# Altium footprint library QFN_Sq_50P_Side_N.PcbLib: 119 footprints (part 1 of 8)
Each footprint in its own frame and in the unit in brackets; x right, y up, seen from the top. Pads: shape width x height; smd on the part's side, far side on the other; paste and mask are expansions set on the pad; w line width, h text height; cw(c..) or ccw(c..) is an arc to the next point about the centre after c.
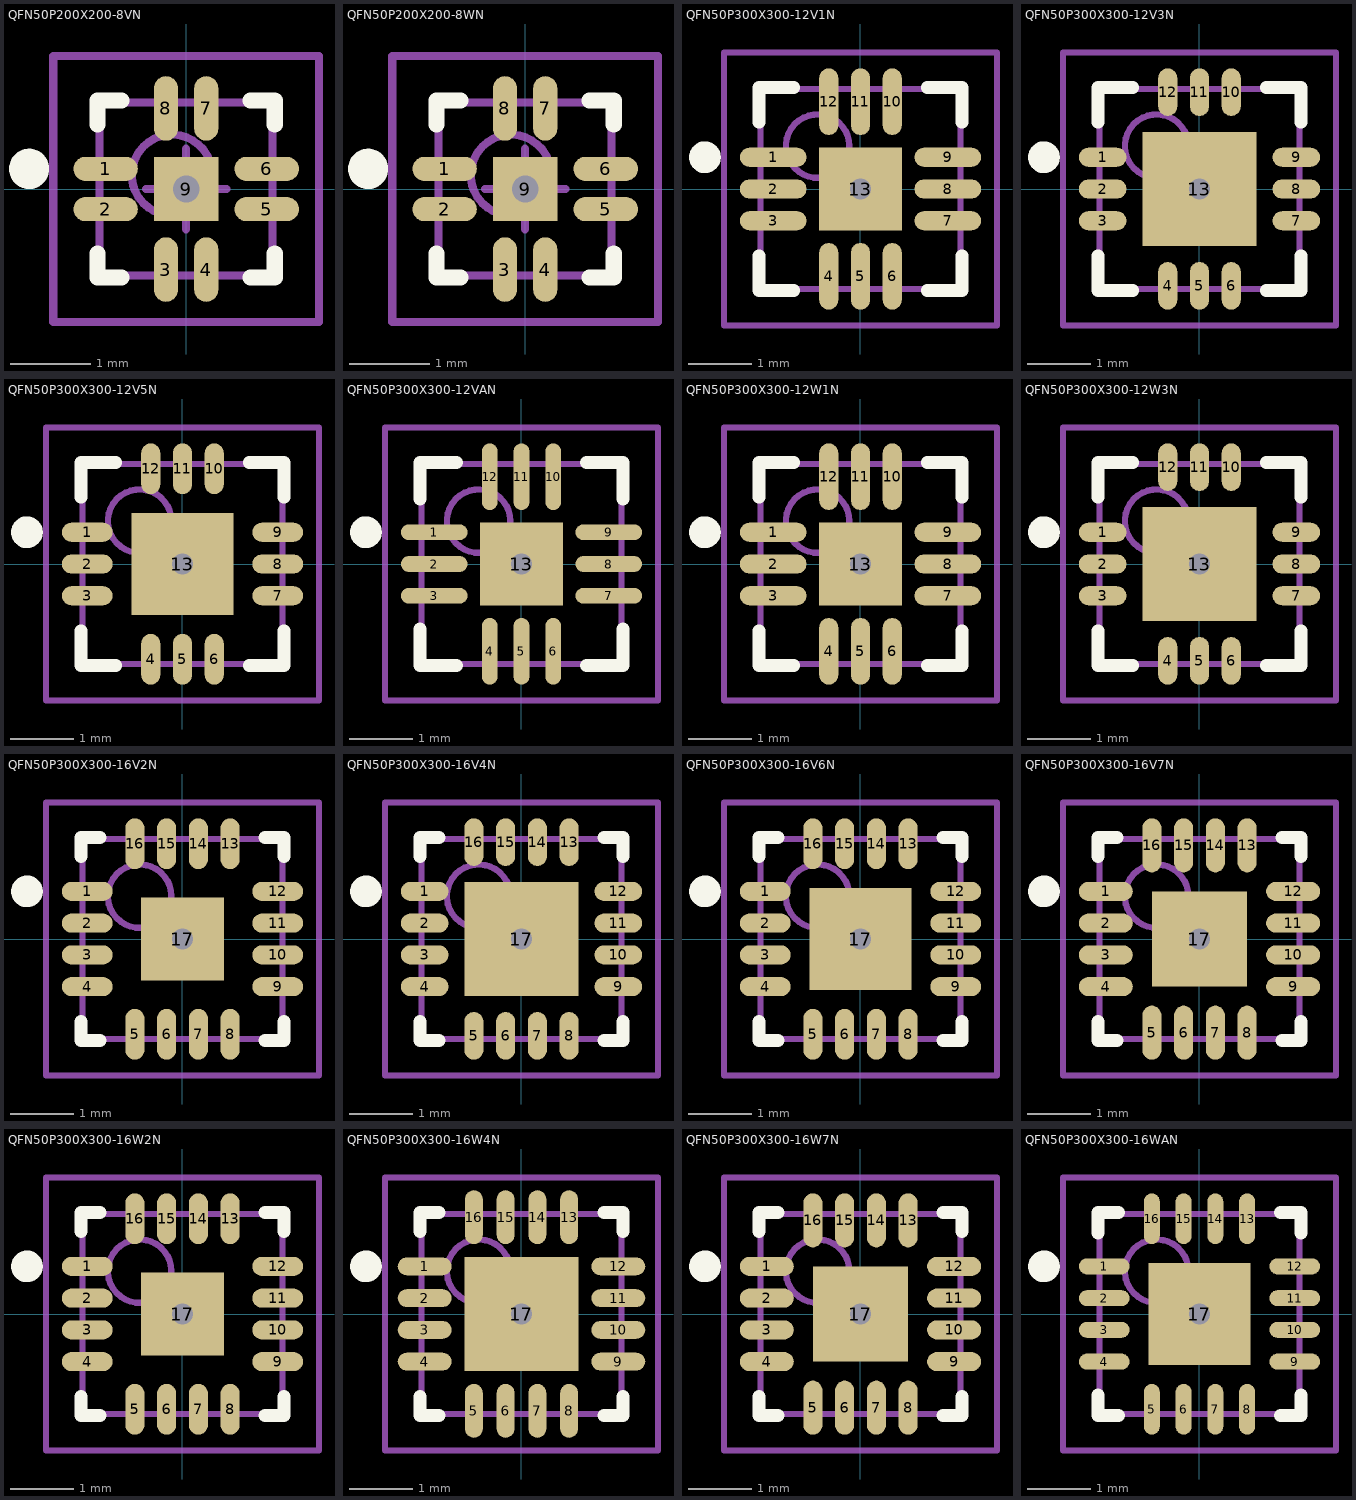
[diagram p0: the footprints below, top view; thin cyan lines are the x and y axes]

## QFN50P200X200-8VN [mm] "QFN, 8-Leads, Body 2x2mm, Pitch 0.5mm, IPC Medium Density"
height 1
pads (9):
  oval 0.8x0.3 smd: 1(-1,0.25) 2(-1,-0.25) 5(1,-0.25) 6(1,0.25)
  oval 0.3x0.8 smd: 3(-0.25,-1) 4(0.25,-1) 7(0.25,1) 8(-0.25,1)
  rect 0.8x0.8 smd: 9(0,0)
via 0,0 diameter 0.66 hole 0.33
Top Overlay:
  circle w0.25: c-1.95,0.25 r0.125
  lines w0.2: -1.1,-0.8 -1.1,-1.1 -0.8,-1.1 ; -1.1,0.8 -1.1,1.1 -0.8,1.1 ; 0.8,-1.1 1.1,-1.1 1.1,-0.8 ; 0.8,1.1 1.1,1.1 1.1,0.8
Mechanical 13:
  circle w0.1: c-0.175,0.175 r0.5
  lines w0.1: -1.075,-1.075 -1.075,1.075 1.075,1.075 1.075,-1.075 -1.075,-1.075
Mechanical 15:
  lines w0.1: -0.5,0 0.5,0 ; 0,-0.5 0,0.5 ; -1.65,-1.65 -1.65,1.65 1.65,1.65 1.65,-1.65 -1.65,-1.65
3D body: height 1, standoff 0, extent -1.075,-1.075 1.075,1.075

## QFN50P200X200-8WN [mm] "QFN, 8-Leads, Body 2x2mm, Pitch 0.5mm, IPC Medium Density"
height 0.8
pads (9):
  oval 0.8x0.3 smd: 1(-1,0.25) 2(-1,-0.25) 5(1,-0.25) 6(1,0.25)
  oval 0.3x0.8 smd: 3(-0.25,-1) 4(0.25,-1) 7(0.25,1) 8(-0.25,1)
  rect 0.8x0.8 smd: 9(0,0)
via 0,0 diameter 0.66 hole 0.33
Top Overlay:
  circle w0.25: c-1.95,0.25 r0.125
  lines w0.2: -1.1,-0.8 -1.1,-1.1 -0.8,-1.1 ; -1.1,0.8 -1.1,1.1 -0.8,1.1 ; 0.8,-1.1 1.1,-1.1 1.1,-0.8 ; 0.8,1.1 1.1,1.1 1.1,0.8
Mechanical 13:
  circle w0.1: c-0.175,0.175 r0.5
  lines w0.1: -1.075,-1.075 1.075,-1.075 1.075,1.075 -1.075,1.075 -1.075,-1.075
Mechanical 15:
  lines w0.1: -0.5,0 0.5,0 ; 0,-0.5 0,0.5 ; -1.65,-1.65 1.65,-1.65 1.65,1.65 -1.65,1.65 -1.65,-1.65
3D body: height 0.8, standoff 0, extent -1.075,-1.075 1.075,1.075

## QFN50P300X300-12V1N [mm] "QFN, 12-Leads, Body 3x3mm, Pitch 0.5mm, IPC Medium Density"
height 1
pads (13):
  oval 1.05x0.3 smd: 1(-1.375,0.5) 2(-1.375,0) 3(-1.375,-0.5) 7(1.375,-0.5) 8(1.375,0) 9(1.375,0.5)
  oval 0.3x1.05 smd: 4(-0.5,-1.375) 5(0,-1.375) 6(0.5,-1.375) 10(0.5,1.375) 11(0,1.375) 12(-0.5,1.375)
  rect 1.3x1.3 smd: 13(0,0)
via 0,0 diameter 0.66 hole 0.33
Top Overlay:
  circle w0.25: c-2.45,0.5 r0.125
  lines w0.2: -1.6,-1.05 -1.6,-1.6 -1.05,-1.6 ; -1.6,1.05 -1.6,1.6 -1.05,1.6 ; 1.05,-1.6 1.6,-1.6 1.6,-1.05 ; 1.05,1.6 1.6,1.6 1.6,1.05
Mechanical 13:
  circle w0.1: c-0.675,0.675 r0.5
  lines w0.1: -1.575,-1.575 1.575,-1.575 1.575,1.575 -1.575,1.575 -1.575,-1.575
Mechanical 15:
  lines w0.1: -0.5,0 0.5,0 ; 0,-0.5 0,0.5 ; -2.15,-2.15 2.15,-2.15 2.15,2.15 -2.15,2.15 -2.15,-2.15
3D body: height 1, standoff 0, extent -1.575,-1.575 1.575,1.575

## QFN50P300X300-12V3N [mm] "QFN, 12-Leads, Body 3x3mm, Pitch 0.5mm, IPC Medium Density"
height 1
pads (13):
  oval 0.75x0.3 smd: 1(-1.525,0.5) 2(-1.525,0) 3(-1.525,-0.5) 7(1.525,-0.5) 8(1.525,0) 9(1.525,0.5)
  oval 0.3x0.75 smd: 4(-0.5,-1.525) 5(0,-1.525) 6(0.5,-1.525) 10(0.5,1.525) 11(0,1.525) 12(-0.5,1.525)
  rect 1.8x1.8 smd: 13(0,0)
via 0,0 diameter 0.66 hole 0.33
Top Overlay:
  circle w0.25: c-2.45,0.5 r0.125
  lines w0.2: -1.6,-1.05 -1.6,-1.6 -1.05,-1.6 ; -1.6,1.05 -1.6,1.6 -1.05,1.6 ; 1.05,-1.6 1.6,-1.6 1.6,-1.05 ; 1.05,1.6 1.6,1.6 1.6,1.05
Mechanical 13:
  circle w0.1: c-0.675,0.675 r0.5
  lines w0.1: -1.575,-1.575 -1.575,1.575 1.575,1.575 1.575,-1.575 -1.575,-1.575
Mechanical 15:
  lines w0.1: -0.5,0 0.5,0 ; 0,-0.5 0,0.5 ; -2.15,-2.15 -2.15,2.15 2.15,2.15 2.15,-2.15 -2.15,-2.15
3D body: height 1, standoff 0, extent -1.575,-1.575 1.575,1.575

## QFN50P300X300-12V5N [mm] "QFN, 12-Leads, Body 3x3mm, Pitch 0.5mm, IPC Medium Density"
height 1
pads (13):
  oval 0.8x0.3 smd: 1(-1.5,0.5) 2(-1.5,0) 3(-1.5,-0.5) 7(1.5,-0.5) 8(1.5,0) 9(1.5,0.5)
  oval 0.3x0.8 smd: 4(-0.5,-1.5) 5(0,-1.5) 6(0.5,-1.5) 10(0.5,1.5) 11(0,1.5) 12(-0.5,1.5)
  rect 1.6x1.6 smd: 13(0,0)
via 0,0 diameter 0.66 hole 0.33
Top Overlay:
  circle w0.25: c-2.45,0.5 r0.125
  lines w0.2: -1.6,-1.05 -1.6,-1.6 -1.05,-1.6 ; -1.6,1.05 -1.6,1.6 -1.05,1.6 ; 1.05,-1.6 1.6,-1.6 1.6,-1.05 ; 1.05,1.6 1.6,1.6 1.6,1.05
Mechanical 13:
  circle w0.1: c-0.675,0.675 r0.5
  lines w0.1: -1.575,-1.575 -1.575,1.575 1.575,1.575 1.575,-1.575 -1.575,-1.575
Mechanical 15:
  lines w0.1: -0.5,0 0.5,0 ; 0,-0.5 0,0.5 ; -2.15,-2.15 -2.15,2.15 2.15,2.15 2.15,-2.15 -2.15,-2.15
3D body: height 1, standoff 0, extent -1.575,-1.575 1.575,1.575

## QFN50P300X300-12VAN [mm] "QFN, 12-Leads, Body 3x3mm, Pitch 0.5mm, IPC Medium Density"
height 1
pads (13):
  oval 1.05x0.25 smd: 1(-1.375,0.5) 2(-1.375,0) 3(-1.375,-0.5) 7(1.375,-0.5) 8(1.375,0) 9(1.375,0.5)
  oval 0.25x1.05 smd: 4(-0.5,-1.375) 5(0,-1.375) 6(0.5,-1.375) 10(0.5,1.375) 11(0,1.375) 12(-0.5,1.375)
  rect 1.3x1.3 smd: 13(0,0)
via 0,0 diameter 0.66 hole 0.33
Top Overlay:
  circle w0.25: c-2.45,0.5 r0.125
  lines w0.2: -1.6,-1.025 -1.6,-1.6 -1.025,-1.6 ; -1.6,1.025 -1.6,1.6 -1.025,1.6 ; 1.025,-1.6 1.6,-1.6 1.6,-1.025 ; 1.025,1.6 1.6,1.6 1.6,1.025
Mechanical 13:
  circle w0.1: c-0.675,0.675 r0.5
  lines w0.1: -1.575,-1.575 -1.575,1.575 1.575,1.575 1.575,-1.575 -1.575,-1.575
Mechanical 15:
  lines w0.1: -0.5,0 0.5,0 ; 0,-0.5 0,0.5 ; -2.15,-2.15 -2.15,2.15 2.15,2.15 2.15,-2.15 -2.15,-2.15
3D body: height 1, standoff 0, extent -1.575,-1.575 1.575,1.575

## QFN50P300X300-12W1N [mm] "QFN, 12-Leads, Body 3x3mm, Pitch 0.5mm, IPC Medium Density"
height 0.8
pads (13):
  oval 1.05x0.3 smd: 1(-1.375,0.5) 2(-1.375,0) 3(-1.375,-0.5) 7(1.375,-0.5) 8(1.375,0) 9(1.375,0.5)
  oval 0.3x1.05 smd: 4(-0.5,-1.375) 5(0,-1.375) 6(0.5,-1.375) 10(0.5,1.375) 11(0,1.375) 12(-0.5,1.375)
  rect 1.3x1.3 smd: 13(0,0)
via 0,0 diameter 0.66 hole 0.33
Top Overlay:
  circle w0.25: c-2.45,0.5 r0.125
  lines w0.2: -1.6,-1.05 -1.6,-1.6 -1.05,-1.6 ; -1.6,1.05 -1.6,1.6 -1.05,1.6 ; 1.05,-1.6 1.6,-1.6 1.6,-1.05 ; 1.05,1.6 1.6,1.6 1.6,1.05
Mechanical 13:
  circle w0.1: c-0.675,0.675 r0.5
  lines w0.1: -1.575,-1.575 -1.575,1.575 1.575,1.575 1.575,-1.575 -1.575,-1.575
Mechanical 15:
  lines w0.1: -0.5,0 0.5,0 ; 0,-0.5 0,0.5 ; -2.15,-2.15 -2.15,2.15 2.15,2.15 2.15,-2.15 -2.15,-2.15
3D body: height 0.8, standoff 0, extent -1.575,-1.575 1.575,1.575

## QFN50P300X300-12W3N [mm] "QFN, 12-Leads, Body 3x3mm, Pitch 0.5mm, IPC Medium Density"
height 0.8
pads (13):
  oval 0.75x0.3 smd: 1(-1.525,0.5) 2(-1.525,0) 3(-1.525,-0.5) 7(1.525,-0.5) 8(1.525,0) 9(1.525,0.5)
  oval 0.3x0.75 smd: 4(-0.5,-1.525) 5(0,-1.525) 6(0.5,-1.525) 10(0.5,1.525) 11(0,1.525) 12(-0.5,1.525)
  rect 1.8x1.8 smd: 13(0,0)
via 0,0 diameter 0.66 hole 0.33
Top Overlay:
  circle w0.25: c-2.45,0.5 r0.125
  lines w0.2: -1.6,-1.05 -1.6,-1.6 -1.05,-1.6 ; -1.6,1.05 -1.6,1.6 -1.05,1.6 ; 1.05,-1.6 1.6,-1.6 1.6,-1.05 ; 1.05,1.6 1.6,1.6 1.6,1.05
Mechanical 13:
  circle w0.1: c-0.675,0.675 r0.5
  lines w0.1: -1.575,-1.575 1.575,-1.575 1.575,1.575 -1.575,1.575 -1.575,-1.575
Mechanical 15:
  lines w0.1: -0.5,0 0.5,0 ; 0,-0.5 0,0.5 ; -2.15,-2.15 2.15,-2.15 2.15,2.15 -2.15,2.15 -2.15,-2.15
3D body: height 0.8, standoff 0, extent -1.575,-1.575 1.575,1.575

## QFN50P300X300-16V2N [mm] "QFN, 16-Leads, Body 3x3mm, Pitch 0.5mm, IPC Medium Density"
height 1
pads (17):
  oval 0.8x0.3 smd: 1(-1.5,0.75) 2(-1.5,0.25) 3(-1.5,-0.25) 4(-1.5,-0.75) 9(1.5,-0.75) 10(1.5,-0.25) 11(1.5,0.25) 12(1.5,0.75)
  oval 0.3x0.8 smd: 5(-0.75,-1.5) 6(-0.25,-1.5) 7(0.25,-1.5) 8(0.75,-1.5) 13(0.75,1.5) 14(0.25,1.5) 15(-0.25,1.5) 16(-0.75,1.5)
  rect 1.3x1.3 smd: 17(0,0)
via 0,0 diameter 0.66 hole 0.33
Top Overlay:
  circle w0.25: c-2.45,0.75 r0.125
  lines w0.2: -1.6,-1.3 -1.6,-1.6 -1.3,-1.6 ; -1.6,1.3 -1.6,1.6 -1.3,1.6 ; 1.3,-1.6 1.6,-1.6 1.6,-1.3 ; 1.3,1.6 1.6,1.6 1.6,1.3
Mechanical 13:
  circle w0.1: c-0.675,0.675 r0.5
  lines w0.1: -1.575,-1.575 -1.575,1.575 1.575,1.575 1.575,-1.575 -1.575,-1.575
Mechanical 15:
  lines w0.1: -0.5,0 0.5,0 ; 0,-0.5 0,0.5 ; -2.15,-2.15 -2.15,2.15 2.15,2.15 2.15,-2.15 -2.15,-2.15
3D body: height 1, standoff 0, extent -1.575,-1.575 1.575,1.575

## QFN50P300X300-16V4N [mm] "QFN, 16-Leads, Body 3x3mm, Pitch 0.5mm, IPC Medium Density"
height 1
pads (17):
  oval 0.75x0.3 smd: 1(-1.525,0.75) 2(-1.525,0.25) 3(-1.525,-0.25) 4(-1.525,-0.75) 9(1.525,-0.75) 10(1.525,-0.25) 11(1.525,0.25) 12(1.525,0.75)
  oval 0.3x0.75 smd: 5(-0.75,-1.525) 6(-0.25,-1.525) 7(0.25,-1.525) 8(0.75,-1.525) 13(0.75,1.525) 14(0.25,1.525) 15(-0.25,1.525) 16(-0.75,1.525)
  rect 1.8x1.8 smd: 17(0,0)
via 0,0 diameter 0.66 hole 0.33
Top Overlay:
  circle w0.25: c-2.45,0.75 r0.125
  lines w0.2: -1.6,-1.3 -1.6,-1.6 -1.3,-1.6 ; -1.6,1.3 -1.6,1.6 -1.3,1.6 ; 1.3,-1.6 1.6,-1.6 1.6,-1.3 ; 1.3,1.6 1.6,1.6 1.6,1.3
Mechanical 13:
  circle w0.1: c-0.675,0.675 r0.5
  lines w0.1: -1.575,-1.575 1.575,-1.575 1.575,1.575 -1.575,1.575 -1.575,-1.575
Mechanical 15:
  lines w0.1: -0.5,0 0.5,0 ; 0,-0.5 0,0.5 ; -2.15,-2.15 2.15,-2.15 2.15,2.15 -2.15,2.15 -2.15,-2.15
3D body: height 1, standoff 0, extent -1.575,-1.575 1.575,1.575

## QFN50P300X300-16V6N [mm] "QFN, 16-Leads, Body 3x3mm, Pitch 0.5mm, IPC Medium Density"
height 1
pads (17):
  oval 0.8x0.3 smd: 1(-1.5,0.75) 2(-1.5,0.25) 3(-1.5,-0.25) 4(-1.5,-0.75) 9(1.5,-0.75) 10(1.5,-0.25) 11(1.5,0.25) 12(1.5,0.75)
  oval 0.3x0.8 smd: 5(-0.75,-1.5) 6(-0.25,-1.5) 7(0.25,-1.5) 8(0.75,-1.5) 13(0.75,1.5) 14(0.25,1.5) 15(-0.25,1.5) 16(-0.75,1.5)
  rect 1.6x1.6 smd: 17(0,0)
via 0,0 diameter 0.66 hole 0.33
Top Overlay:
  circle w0.25: c-2.45,0.75 r0.125
  lines w0.2: -1.6,-1.3 -1.6,-1.6 -1.3,-1.6 ; -1.6,1.3 -1.6,1.6 -1.3,1.6 ; 1.3,-1.6 1.6,-1.6 1.6,-1.3 ; 1.3,1.6 1.6,1.6 1.6,1.3
Mechanical 13:
  circle w0.1: c-0.675,0.675 r0.5
  lines w0.1: -1.575,-1.575 1.575,-1.575 1.575,1.575 -1.575,1.575 -1.575,-1.575
Mechanical 15:
  lines w0.1: -0.5,0 0.5,0 ; 0,-0.5 0,0.5 ; -2.15,-2.15 2.15,-2.15 2.15,2.15 -2.15,2.15 -2.15,-2.15
3D body: height 1, standoff 0, extent -1.575,-1.575 1.575,1.575

## QFN50P300X300-16V7N [mm] "QFN, 16-Leads, Body 3x3mm, Pitch 0.5mm, IPC Medium Density"
height 1
pads (17):
  oval 0.85x0.3 smd: 1(-1.475,0.75) 2(-1.475,0.25) 3(-1.475,-0.25) 4(-1.475,-0.75) 9(1.475,-0.75) 10(1.475,-0.25) 11(1.475,0.25) 12(1.475,0.75)
  oval 0.3x0.85 smd: 5(-0.75,-1.475) 6(-0.25,-1.475) 7(0.25,-1.475) 8(0.75,-1.475) 13(0.75,1.475) 14(0.25,1.475) 15(-0.25,1.475) 16(-0.75,1.475)
  rect 1.5x1.5 smd: 17(0,0)
via 0,0 diameter 0.66 hole 0.33
Top Overlay:
  circle w0.25: c-2.45,0.75 r0.125
  lines w0.2: -1.6,-1.3 -1.6,-1.6 -1.3,-1.6 ; -1.6,1.3 -1.6,1.6 -1.3,1.6 ; 1.3,-1.6 1.6,-1.6 1.6,-1.3 ; 1.3,1.6 1.6,1.6 1.6,1.3
Mechanical 13:
  circle w0.1: c-0.675,0.675 r0.5
  lines w0.1: -1.575,-1.575 -1.575,1.575 1.575,1.575 1.575,-1.575 -1.575,-1.575
Mechanical 15:
  lines w0.1: -0.5,0 0.5,0 ; 0,-0.5 0,0.5 ; -2.15,-2.15 -2.15,2.15 2.15,2.15 2.15,-2.15 -2.15,-2.15
3D body: height 1, standoff 0, extent -1.575,-1.575 1.575,1.575

## QFN50P300X300-16W2N [mm] "QFN, 16-Leads, Body 3x3mm, Pitch 0.5mm, IPC Medium Density"
height 0.8
pads (17):
  oval 0.8x0.3 smd: 1(-1.5,0.75) 2(-1.5,0.25) 3(-1.5,-0.25) 4(-1.5,-0.75) 9(1.5,-0.75) 10(1.5,-0.25) 11(1.5,0.25) 12(1.5,0.75)
  oval 0.3x0.8 smd: 5(-0.75,-1.5) 6(-0.25,-1.5) 7(0.25,-1.5) 8(0.75,-1.5) 13(0.75,1.5) 14(0.25,1.5) 15(-0.25,1.5) 16(-0.75,1.5)
  rect 1.3x1.3 smd: 17(0,0)
via 0,0 diameter 0.66 hole 0.33
Top Overlay:
  circle w0.25: c-2.45,0.75 r0.125
  lines w0.2: -1.6,-1.3 -1.6,-1.6 -1.3,-1.6 ; -1.6,1.3 -1.6,1.6 -1.3,1.6 ; 1.3,-1.6 1.6,-1.6 1.6,-1.3 ; 1.3,1.6 1.6,1.6 1.6,1.3
Mechanical 13:
  circle w0.1: c-0.675,0.675 r0.5
  lines w0.1: -1.575,-1.575 1.575,-1.575 1.575,1.575 -1.575,1.575 -1.575,-1.575
Mechanical 15:
  lines w0.1: -0.5,0 0.5,0 ; 0,-0.5 0,0.5 ; -2.15,-2.15 2.15,-2.15 2.15,2.15 -2.15,2.15 -2.15,-2.15
3D body: height 0.8, standoff 0, extent -1.575,-1.575 1.575,1.575

## QFN50P300X300-16W4N [mm] "QFN, 16-Leads, Body 3x3mm, Pitch 0.5mm, IPC Medium Density"
height 0.8
pads (17):
  oval 0.85x0.28 smd: 1(-1.525,0.75) 2(-1.525,0.25) 3(-1.525,-0.25) 4(-1.525,-0.75) 9(1.525,-0.75) 10(1.525,-0.25) 11(1.525,0.25) 12(1.525,0.75)
  oval 0.28x0.85 smd: 5(-0.75,-1.525) 6(-0.25,-1.525) 7(0.25,-1.525) 8(0.75,-1.525) 13(0.75,1.525) 14(0.25,1.525) 15(-0.25,1.525) 16(-0.75,1.525)
  rect 1.8x1.8 smd: 17(0,0)
via 0,0 diameter 0.66 hole 0.33
Top Overlay:
  circle w0.25: c-2.45,0.75 r0.125
  lines w0.2: -1.6,-1.3 -1.6,-1.6 -1.3,-1.6 ; -1.6,1.3 -1.6,1.6 -1.3,1.6 ; 1.3,-1.6 1.6,-1.6 1.6,-1.3 ; 1.3,1.6 1.6,1.6 1.6,1.3
Mechanical 13:
  circle w0.1: c-0.675,0.675 r0.5
  lines w0.1: -1.575,-1.575 1.575,-1.575 1.575,1.575 -1.575,1.575 -1.575,-1.575
Mechanical 15:
  lines w0.1: -0.5,0 0.5,0 ; 0,-0.5 0,0.5 ; -2.15,-2.15 2.15,-2.15 2.15,2.15 -2.15,2.15 -2.15,-2.15
3D body: height 0.8, standoff 0, extent -1.575,-1.575 1.575,1.575

## QFN50P300X300-16W7N [mm] "QFN, 16-Leads, Body 3x3mm, Pitch 0.5mm, IPC Medium Density"
height 0.8
pads (17):
  oval 0.85x0.3 smd: 1(-1.475,0.75) 2(-1.475,0.25) 3(-1.475,-0.25) 4(-1.475,-0.75) 9(1.475,-0.75) 10(1.475,-0.25) 11(1.475,0.25) 12(1.475,0.75)
  oval 0.3x0.85 smd: 5(-0.75,-1.475) 6(-0.25,-1.475) 7(0.25,-1.475) 8(0.75,-1.475) 13(0.75,1.475) 14(0.25,1.475) 15(-0.25,1.475) 16(-0.75,1.475)
  rect 1.5x1.5 smd: 17(0,0)
via 0,0 diameter 0.66 hole 0.33
Top Overlay:
  circle w0.25: c-2.45,0.75 r0.125
  lines w0.2: -1.6,-1.3 -1.6,-1.6 -1.3,-1.6 ; -1.6,1.3 -1.6,1.6 -1.3,1.6 ; 1.3,-1.6 1.6,-1.6 1.6,-1.3 ; 1.3,1.6 1.6,1.6 1.6,1.3
Mechanical 13:
  circle w0.1: c-0.675,0.675 r0.5
  lines w0.1: -1.575,-1.575 1.575,-1.575 1.575,1.575 -1.575,1.575 -1.575,-1.575
Mechanical 15:
  lines w0.1: -0.5,0 0.5,0 ; 0,-0.5 0,0.5 ; -2.15,-2.15 2.15,-2.15 2.15,2.15 -2.15,2.15 -2.15,-2.15
3D body: height 0.8, standoff 0, extent -1.575,-1.575 1.575,1.575

## QFN50P300X300-16WAN [mm] "QFN, 16-Leads, Body 3x3mm, Pitch 0.5mm, IPC Medium Density"
height 0.8
pads (17):
  oval 0.8x0.25 smd: 1(-1.5,0.75) 2(-1.5,0.25) 3(-1.5,-0.25) 4(-1.5,-0.75) 9(1.5,-0.75) 10(1.5,-0.25) 11(1.5,0.25) 12(1.5,0.75)
  oval 0.25x0.8 smd: 5(-0.75,-1.5) 6(-0.25,-1.5) 7(0.25,-1.5) 8(0.75,-1.5) 13(0.75,1.5) 14(0.25,1.5) 15(-0.25,1.5) 16(-0.75,1.5)
  rect 1.6x1.6 smd: 17(0,0)
via 0,0 diameter 0.66 hole 0.33
Top Overlay:
  circle w0.25: c-2.45,0.75 r0.125
  lines w0.2: -1.6,-1.275 -1.6,-1.6 -1.275,-1.6 ; -1.6,1.275 -1.6,1.6 -1.275,1.6 ; 1.275,-1.6 1.6,-1.6 1.6,-1.275 ; 1.275,1.6 1.6,1.6 1.6,1.275
Mechanical 13:
  circle w0.1: c-0.675,0.675 r0.5
  lines w0.1: -1.575,-1.575 1.575,-1.575 1.575,1.575 -1.575,1.575 -1.575,-1.575
Mechanical 15:
  lines w0.1: -0.5,0 0.5,0 ; 0,-0.5 0,0.5 ; -2.15,-2.15 2.15,-2.15 2.15,2.15 -2.15,2.15 -2.15,-2.15
3D body: height 0.8, standoff 0, extent -1.575,-1.575 1.575,1.575